# Altium footprint library Switches.PcbLib: 1 footprints
Each footprint in its own frame and in the unit in brackets; x right, y up, seen from the top. Pads: shape width x height; smd on the part's side, far side on the other; paste and mask are expansions set on the pad; w line width, h text height; cw(c..) or ccw(c..) is an arc to the next point about the centre after c.
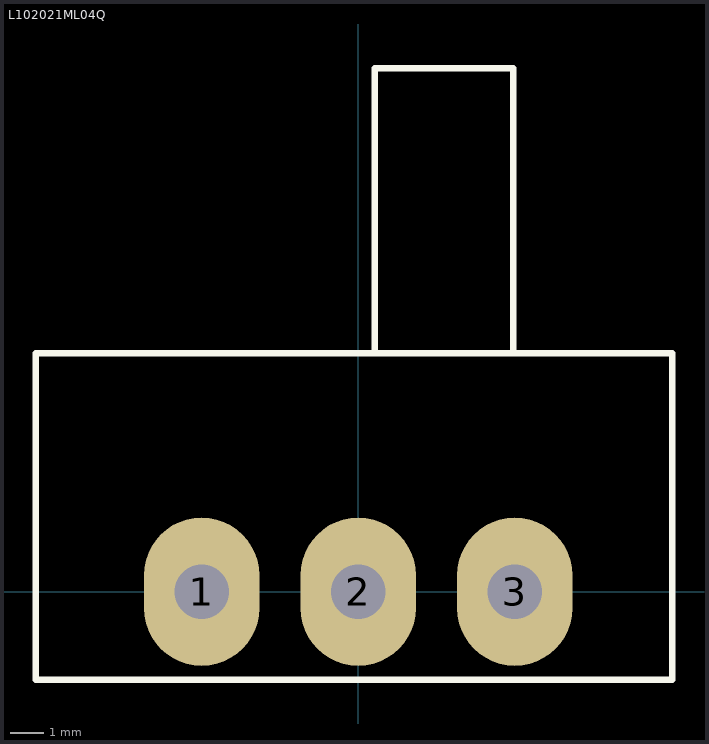
[diagram p0: the footprint, top view; thin cyan lines are the x and y axes]

## L102021ML04Q [mm]
pads (3):
  oval 3.5x4.5 hole 1.65: 1(-4.75,0) 2(0,0) 3(4.75,0)
Top Overlay:
  lines w0.2: -6.35,7.239 0.508,7.239 0.508,15.875 4.699,15.875 4.699,7.239 ; -9.779,-2.667 -9.779,7.239 9.525,7.239 9.525,-2.667 -9.779,-2.667
3D body "L102021ML04Q.stp": height 10.48, standoff -3.95, extent -9.651,-4.445 9.653,15.875